# Altium integrated library SAMTEC-SSQ-103-01-X-S.IntLib: 1 symbol
Pins are listed as number, name and electrical type; pins without a type are passive.

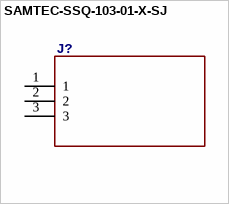
[diagram p0: symbol SAMTEC-SSQ-103-01-X-SJ]

## SAMTEC-SSQ-103-01-X-SJ
designator J?
footprint SAMTEC-SSQ-103-01-X-S
pins: 1, 2, 3